# EAGLE library part MOLEX-ULTRAFIT-1X07 (library MolexUltrafit)
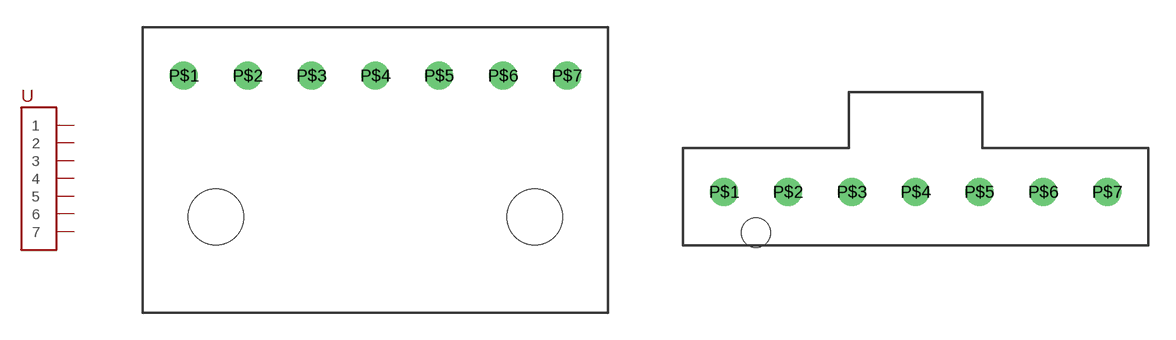
[diagram p2: symbol with the pads of MOLEX-ULTRAFIT-1X07H; footprints MOLEX-ULTRAFIT-1X07H, MOLEX-ULTRAFIT-1X07V]

Designator prefix -

## MOLEX-ULTRAFIT-1X07-HORIZ  [MOLEX-ULTRAFIT-1X07H]
P$1  1
P$2  2
P$3  3
P$4  4
P$5  5
P$6  6
P$7  7

## MOLEX-ULTRAFIT-1X07-VERT  [MOLEX-ULTRAFIT-1X07V]
Pads as for MOLEX-ULTRAFIT-1X07H

## Footprint MOLEX-ULTRAFIT-1X07H (pad centres in mm)
Molex UltraFit Horizontal 1x07 Parts 172310-1107 172310-1207 172310-1307 172310-2107 172310-2207 172310-2307 Data Sheet <https://www.molex.com/pdm_docs/sd/1723101108_sd.pdf>
drill 1.02: P$1 2.25,13; P$2 5.75,13; P$3 9.25,13; P$4 12.75,13; P$5 16.25,13; P$6 19.75,13; P$7 23.25,13
hole 3.05 at 4,5.25
hole 3.05 at 21.5,5.25

## Footprint MOLEX-ULTRAFIT-1X07V (pad centres in mm)
Molex UltraFit Vertical 1x07 Parts 172286-1107 172286-1207 172286-1307 172286-2107 172286-2207 172286-2307 Data Sheet <https://www.molex.com/pdm_docs/sd/1722861102_sd.pdf>
drill 1.02: P$1 2.25,2.93; P$2 5.75,2.93; P$3 9.25,2.93; P$4 12.75,2.93; P$5 16.25,2.93; P$6 19.75,2.93; P$7 23.25,2.93
hole 1.6 at 4,0.7